# Altium schematic symbol library Connectors.SchLib: 9 symbols
Pins are listed as number, name and electrical type; pins without a type are passive.

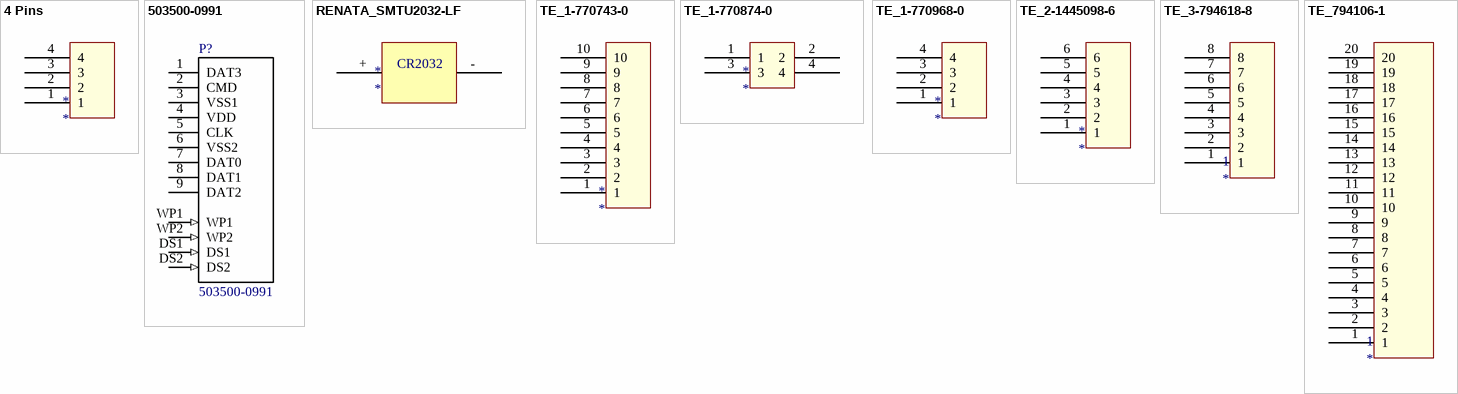
[diagram p0: symbols 4 Pins to TE_794106-1]

## 4 Pins
designator *
footprint 4Pins
pins: 1, 2, 3, 4

## 503500-0991
designator P?
Conn SD Card SKT 9 POS 2.5mm Solder RA SMD Embossed T/R 0.5A/Contact; MF: Molex; MP: 503500-0991; Price: 2.91 USD; Package: FakePackage u; Availability: Good; Value: *
footprint MOLEX_503500-0991_503500-0991(Primary)
pins: 1 DAT3, 2 CMD, 3 VSS1, 4 VDD, 5 CLK, 6 VSS2, 7 DAT0, 8 DAT1, 9 DAT2, DS1 (in), DS2 (in), WP1 (in), WP2 (in)

## RENATA_SMTU2032-LF
designator *
footprint RENATA_SMTU2032-LF
pins: +, -
text: CR2032

## TE_1-770743-0
designator *
footprint TE_1-770743-0
pins: 1, 2, 3, 4, 5, 6, 7, 8, 9, 10

## TE_1-770874-0
designator *
footprint TE_1-770874-0 (4Pin)
pins: 1, 2, 3, 4

## TE_1-770968-0
designator *
footprint TE_1-770968-0
pins: 1, 2, 3, 4

## TE_2-1445098-6
designator *
footprint TE_2-1445098-6
pins: 1, 2, 3, 4, 5, 6

## TE_3-794618-8
designator 1
pins: 1, 2, 3, 4, 5, 6, 7, 8

## TE_794106-1
designator 1
footprint TE_794106-1 (20 Pin Side Connector)
pins: 1, 2, 3, 4, 5, 6, 7, 8, 9, 10, 11, 12, 13, 14, 15, 16, 17, 18, 19, 20